# EAGLE library part 0TG-LIB-V01.4_FLASH-SPI-CIRCUIT_PYTHON (library TG-Watch02B-rev04)
SOIC8 SPI Flash Be careful with the size since SOIC8 flash comes in several 'widths' SOIC8 150 mil M25P16 - 16Mbit (2Mbit x 8) Serial Flash (75MHz SPI Bus), Supply: 2.7-3.6V Digikey: SOIC8 - M25P16-VMN6P-ND SOIC8 208 mil W25Q16BVSSIG - 16Mbit (2Mbit x 8) Serial Flash (104MHz SPI Bus), Supply: 2.7-3.6V Digikey: SOIC8 - W25Q16BVSSIG-ND from: adafruit availability low
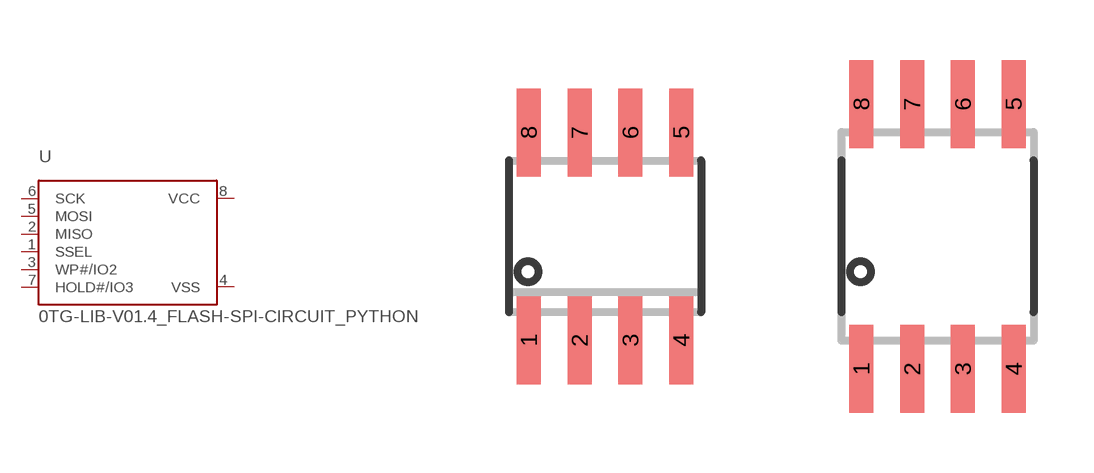
[diagram p0: symbol with the pads of 0TG-LIB-V01.4_SOIC8_150MIL; footprints 0TG-LIB-V01.4_SOIC8_150MIL, 0TG-LIB-V01.4_SOIC8_208MIL]

Designator prefix U

## 0TG-LIB-V01.4_FLASH-SPI-CIRCUIT_PYTHON150MIL  [0TG-LIB-V01.4_SOIC8_150MIL]
1  SSEL
2  MISO
3  WP#/IO2
4  VSS
5  MOSI
6  SCK
7  HOLD#/IO3
8  VCC

## 0TG-LIB-V01.4_FLASH-SPI-CIRCUIT_PYTHON208MIL  [0TG-LIB-V01.4_SOIC8_208MIL]
Pads as for 0TG-LIB-V01.4_SOIC8_150MIL

## 0TG-LIB-V01.4_FLASH-SPI-CIRCUIT_PYTHONUSON8-ADA  [0TG-LIB-V01.4_MICROBUILDER_USON8]
Pads as for 0TG-LIB-V01.4_SOIC8_150MIL

## 0TG-LIB-V01.4_FLASH-SPI-CIRCUIT_PYTHONWSON8_5X6  [0TG-LIB-V01.4_SON127P600X500X80-9N]
Pads as for 0TG-LIB-V01.4_SOIC8_150MIL

## 0TG-LIB-V01.4_FLASH-SPI-CIRCUIT_PYTHONWSON8_5X6_EXTEN  [0TG-LIB-V01.4_SON127P600X500X80-9N_EXTENDED]
Pads as for 0TG-LIB-V01.4_SOIC8_150MIL

## 0TG-LIB-V01.4_FLASH-SPI-CIRCUIT_PYTHONWSON_5X6_SLIM/EXTEN  [0TG-LIB-V01.4_SON127P600X500X80-9N_SLIM_EXTENDED]
Pads as for 0TG-LIB-V01.4_SOIC8_150MIL

## Footprint 0TG-LIB-V01.4_SOIC8_150MIL (pad centres in mm)
Small Outline IC - 150mil Wide
smd 0.6 x 2.2: 1 -1.905,-2.6; 2 -0.635,-2.6; 3 0.635,-2.6; 4 1.905,-2.6; 5 1.905,2.6; 6 0.635,2.6; 7 -0.635,2.6; 8 -1.905,2.6

## Footprint 0TG-LIB-V01.4_SOIC8_208MIL (pad centres in mm)
Small Outline IC - 208mil Wide
smd 0.6 x 2.2: 1 -1.905,-3.315; 2 -0.635,-3.315; 3 0.635,-3.315; 4 1.905,-3.315; 5 1.905,3.315; 6 0.635,3.315; 7 -0.635,3.315; 8 -1.905,3.315

## Footprint 0TG-LIB-V01.4_MICROBUILDER_USON8 (pad centres in mm)
smd 0.35 x 0.25: 1 -1.2,0.75; 2 -1.2,0.25; 3 -1.2,-0.25; 4 -1.2,-0.75; 5 1.2,-0.75; 6 1.2,-0.25; 7 1.2,0.25; 8 1.2,0.75

## Footprint 0TG-LIB-V01.4_SON127P600X500X80-9N (pad centres in mm)
smd 1.04 x 0.44: 1 -2.845,1.905; 2 -2.845,0.635; 3 -2.845,-0.635; 4 -2.845,-1.905; 5 2.845,-1.905; 6 2.845,-0.635; 7 2.845,0.635; 8 2.845,1.905
smd 3.4 x 4.3: 9 0,0

## Footprint 0TG-LIB-V01.4_SON127P600X500X80-9N_EXTENDED (pad centres in mm)
smd 2 x 0.45: 1 -3.245,1.905; 2 -3.245,0.635; 3 -3.245,-0.635; 4 -3.245,-1.905; 5 3.245,-1.905; 6 3.245,-0.635; 7 3.245,0.635; 8 3.245,1.905
smd 3.4 x 4.3: 9 0,0

## Footprint 0TG-LIB-V01.4_SON127P600X500X80-9N_SLIM_EXTENDED (pad centres in mm)
smd 2 x 0.45: 1 -3.245,1.905; 2 -3.245,0.635; 3 -3.245,-0.635; 4 -3.245,-1.905; 5 3.245,-1.905; 6 3.245,-0.635; 7 3.245,0.635; 8 3.245,1.905
smd 2.5 x 4.45: 9 0,0